# Altium footprint library MyLibrary.PcbLib: 19 footprints (part 2 of 2)
Each footprint in its own frame and in the unit in brackets; x right, y up, seen from the top. Pads: shape width x height; smd on the part's side, far side on the other; paste and mask are expansions set on the pad; w line width, h text height; cw(c..) or ccw(c..) is an arc to the next point about the centre after c.
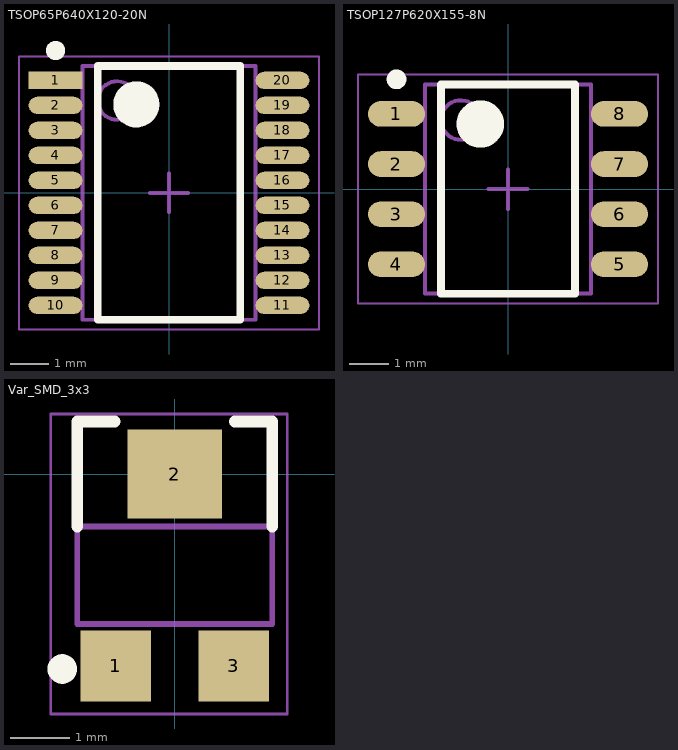
[diagram p1: the footprints below, top view; thin cyan lines are the x and y axes]

## TSOP65P640X120-20N [mm] "TSOP, 20-Leads, Body 6.50x4.40mm, Pitch 0.65mm, IPC Medium Density"
height 1.2
pads (20):
  rect 1.4x0.45 smd: 1(-2.95,2.925)
  oval 1.4x0.45 smd: 2(-2.95,2.275) 3(-2.95,1.625) 4(-2.95,0.975) 5(-2.95,0.325) 6(-2.95,-0.325) 7(-2.95,-0.975) 8(-2.95,-1.625) 9(-2.95,-2.275) 10(-2.95,-2.925) 11(2.95,-2.925) 12(2.95,-2.275) 13(2.95,-1.625) 14(2.95,-0.975) 15(2.95,-0.325) 16(2.95,0.325) 17(2.95,0.975) 18(2.95,1.625) 19(2.95,2.275) 20(2.95,2.925)
Top Overlay:
  circle w0.25: c-2.95,3.7 r0.125
  circle w0.6: c-0.85,2.3 r0.3
  lines w0.2: -1.85,-3.3 -1.85,3.3 1.85,3.3 1.85,-3.3 -1.85,-3.3
Mechanical 13:
  circle w0.1: c-1.35,2.4 r0.5
  lines w0.1: -2.25,-3.3 -2.25,3.3 2.25,3.3 2.25,-3.3 -2.25,-3.3
Mechanical 15:
  lines w0.05: -3.9,-3.55 -3.9,3.55 3.9,3.55 3.9,-3.55 -3.9,-3.55
  lines w0.1: -0.5,0 0.5,0 ; 0,-0.5 0,0.5
3D body "TSOP65P640X120-20N.step": height 1.2, standoff 0, extent -3.2,-3.3 3.2,3.3

## TSOP127P620X155-8N [mm] "TSOP, 8-Leads, Body 5.15x4.05mm, Pitch 1.27mm, IPC Medium Density"
height 1.55
pads (8):
  oval 1.45x0.65 smd: 1(-2.825,1.905) 2(-2.825,0.635) 3(-2.825,-0.635) 4(-2.825,-1.905) 5(2.825,-1.905) 6(2.825,-0.635) 7(2.825,0.635) 8(2.825,1.905)
Top Overlay:
  circle w0.25: c-2.825,2.78 r0.125
  circle w0.6: c-0.7,1.65 r0.3
  lines w0.2: -1.7,-2.65 -1.7,2.65 1.7,2.65 1.7,-2.65 -1.7,-2.65
Mechanical 13:
  circle w0.1: c-1.2,1.75 r0.5
  lines w0.1: -2.1,-2.65 -2.1,2.65 2.1,2.65 2.1,-2.65 -2.1,-2.65
Mechanical 15:
  lines w0.05: -3.8,-2.9 -3.8,2.9 3.8,2.9 3.8,-2.9 -3.8,-2.9
  lines w0.1: -0.5,0 0.5,0 ; 0,-0.5 0,0.5
3D body: height 1.55, standoff 0.15, extent -2.1,-2.65 2.1,2.65

## Var_SMD_3x3 [mm] "3x3 102-1K SMD 3303W"
height 1.25
pads (3):
  rect 1.2x1.2 smd: 1(-1,-3.25) 3(1,-3.25)
  rect 1.6x1.5 smd: 2(0,0)
Top Overlay:
  circle w0.25: c-1.905,-3.302 r0.125
  lines w0.2: -1.651,-0.889 -1.651,0.889 -1.016,0.889 ; 1.016,0.889 1.651,0.889 1.651,-0.889
Mechanical 13:
  lines w0.1: -1.651,-2.54 -1.651,-0.889 1.651,-0.889 1.651,-2.54 -1.651,-2.54
Mechanical 15:
  lines w0.05: -2.1,-4.064 -2.1,1.016 1.905,1.016 1.905,-4.064 -2.1,-4.064
  lines w0.1: -0.5,0 0.5,0 ; 0,-0.5 0,0.5